# EAGLE library part INA126 (library ds_ic_opa)
MicroPOWER INSTRUMENTATION AMPLIFIER
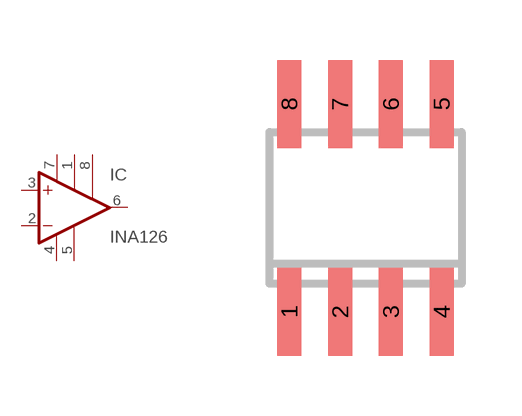
[diagram p11: symbol with the pads of SO8; footprint SO8]

Designator prefix IC

## INA126  [SO8]
1  RG  pas
2  -IN  in
3  +IN  in
4  V-  pwr
5  REF  pas
6  OUT  out
7  V+  pwr
8  RG  pas

## Footprint SO8 (pad centres in mm)
SMALL OUTLINE INTEGRATED CIRCUIT
smd 0.6 x 2.2: 1 -1.905,-2.6; 2 -0.635,-2.6; 3 0.635,-2.6; 4 1.905,-2.6; 5 1.905,2.6; 6 0.635,2.6; 7 -0.635,2.6; 8 -1.905,2.6